# Altium footprint library PCB - IND - WE-CBF_0805_High Current.PCBLIB: 1 footprints
Each footprint in its own frame and in the unit in brackets; x right, y up, seen from the top. Pads: shape width x height; smd on the part's side, far side on the other; paste and mask are expansions set on the pad; w line width, h text height; cw(c..) or ccw(c..) is an arc to the next point about the centre after c.
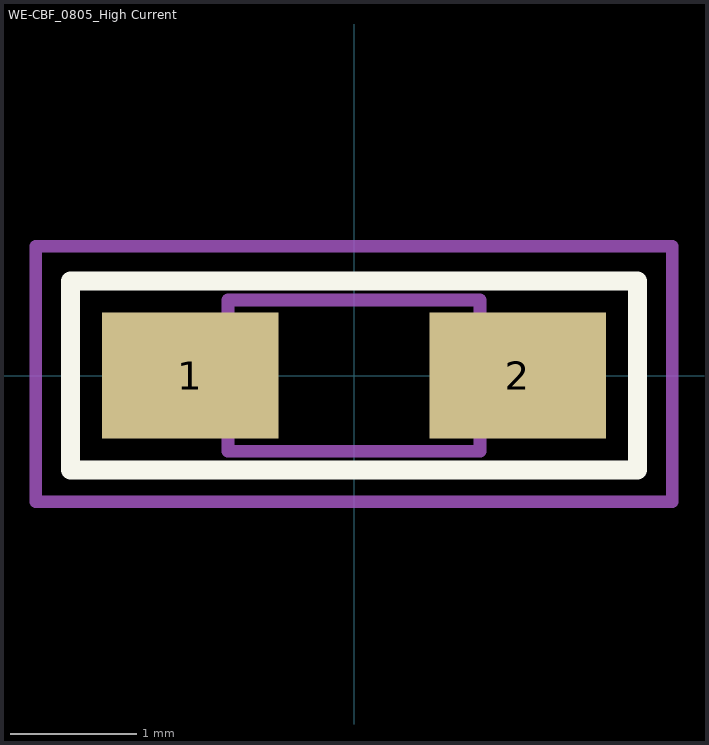
[diagram p0: the footprint, top view; thin cyan lines are the x and y axes]

## WE-CBF_0805_High Current [mm] "SMD EMI Suppression Ferrite  Bead, body 2.0mmx1.2mm"
height 0.9
pads (2):
  rect 1.4x1 smd: 1(-1.3,0) 2(1.3,0)
Top Overlay:
  lines w0.15: -2.25,-0.75 2.25,-0.75 2.25,0.75 -2.25,0.75 -2.25,-0.75
Top Assembly:
  lines w0.1: -1,-0.6 1,-0.6 1,0.6 -1,0.6 -1,-0.6
Top Courtyard:
  lines w0.1: -2.525,-1 -2.525,1.025 2.525,1.025 2.525,-1 -2.525,-1
Top Designator:
  text ".Designator" at -0.55,-1.65 h1
Top Value:
  text ".Comment" at -0.525,-2.475 h1
3D body "WE-CBF_0805_CBF.stp": height 0.93, standoff 0.03, extent -1,-0.6 1,0.6